# EAGLE library part WE-PPTI_1006 (library WE-PPTI)
WE-PPTI Push-Pull Transformers Characteristics Small size Surface mount Low profile Operating temp: -40°C to 125°C Functional or Reinforced Insulation Applications Isolated interface power supply for CAN, RS-485, RS-422, RS-232, SPI, I2C, lower-power LAN Industrial automation Process control Medical equipment PLC analog and digital I/O modules Isolated gate driver power supplies AC motor drives Uninterruptible power supplies (UPS) Solar inverters Polyphase energy meters Protection relays and IEDs <https://www.we-online.com/components/media/o715993v209%20Family-PPTI.jpg> Details see: www.we-online.com/en/components/products/WE-PPTI <www.we-online.com/catalog/WE-PPTI/?utm_source=eagle_model&utm_medium=description_link&utm_campaign=eisos_eagle> Updated by Ella Wu 2024-05-03 2024 (C) Würth Elektronik
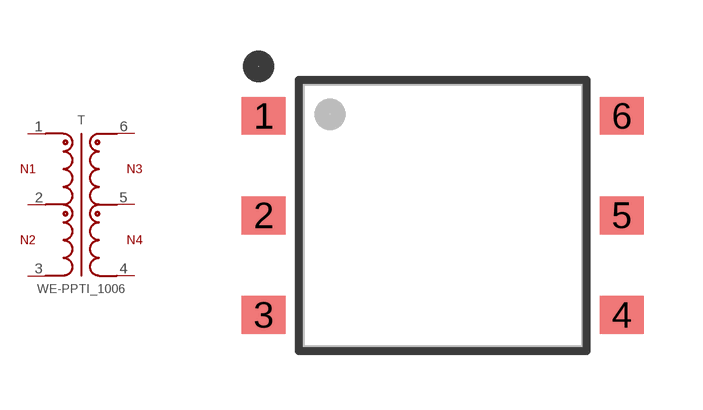
[diagram p10: symbol with the pads of WE-PPTI_1006_L10.2W6.73H4.19; footprint WE-PPTI_1006_L10.2W6.73H4.19]

Designator prefix T

## WE-PPTI_1006_750313710_L10.2W6.73H4.19 (DATASHEET-URL: https://www.we-online.com/redexpert/spec/750313710?ae; FSWITCH: 250 - 620kHz; HEIGHT: 4.19 mm; IOUT1: 650 mA; L: 475 uH; LENGTH: 10.2 mm; MOUNT: SMT; N: 1.23:1; PART-NUMBER: 750313710; SIZE: 1006; TYPE-OF-INSULATION: Functional; VALUE: 750313710; VIN: 5 V (DC); VOLTAGE-TIME: 11 Vus; VOUT1: 3.3 V (DC); VT: 2500 V (AC); WIDTH: 6.73 mm), WE-PPTI_1006_750315225_L10.2W6.73H4.19 (DATASHEET-URL: https://www.we-online.com/redexpert/spec/750315225?ae; FSWITCH: 350 - 550kHz; HEIGHT: 4.19 mm; IOUT1: 900 mA; L: 388 uH; LENGTH: 10.2 mm; MOUNT: SMT; N: 1:1.1; PART-NUMBER: 750315225; SIZE: 1006; TYPE-OF-INSULATION: Functional; VALUE: 750315225; VIN: 3.3 V (DC); VOLTAGE-TIME: 8.5 Vus; VOUT1: 3.6 V (DC); VT: 2750 V (AC); WIDTH: 6.73 mm), WE-PPTI_1006_750315226_L10.2W6.73H4.19 (DATASHEET-URL: https://www.we-online.com/redexpert/spec/750315226?ae; FSWITCH: 350 - 550kHz; HEIGHT: 4.19 mm; IOUT1: 850 mA; L: 388 uH; LENGTH: 10.2 mm; MOUNT: SMT; N: 1:1.3; PART-NUMBER: 750315226; SIZE: 1006; TYPE-OF-INSULATION: Functional; VALUE: 750315226; VIN: 3.3 V (DC); VOLTAGE-TIME: 8.5 Vus; VOUT1: 4.3 V (DC); VT: 2750 V (AC); WIDTH: 6.73 mm), WE-PPTI_1006_750315227_L10.2W6.73H4.19 (DATASHEET-URL: https://www.we-online.com/redexpert/spec/750315227?ae; FSWITCH: 350 - 550kHz; HEIGHT: 4.19 mm; IOUT1: 700 mA; L: 388 uH; LENGTH: 10.2 mm; MOUNT: SMT; N: 1:1.7; PART-NUMBER: 750315227; SIZE: 1006; TYPE-OF-INSULATION: Functional; VALUE: 750315227; VIN: 3.3 V (DC); VOLTAGE-TIME: 8.5 Vus; VOUT1: 5.6 V (DC); VT: 2750 V (AC); WIDTH: 6.73 mm), WE-PPTI_1006_750315228_L10.2W6.73H4.19 (DATASHEET-URL: https://www.we-online.com/redexpert/spec/750315228?ae; FSWITCH: 350 - 550kHz; HEIGHT: 4.19 mm; IOUT1: 500 mA; L: 388 uH; LENGTH: 10.2 mm; MOUNT: SMT; N: 1:2; PART-NUMBER: 750315228; SIZE: 1006; TYPE-OF-INSULATION: Functional; VALUE: 750315228; VIN: 3.3 V (DC); VOLTAGE-TIME: 8.5 Vus; VOUT1: 6.6 V (DC); VT: 2750 V (AC); WIDTH: 6.73 mm), WE-PPTI_1006_750316769_L10.2W6.73H4.19 (DATASHEET-URL: https://www.we-online.com/redexpert/spec/750316769?ae; FSWITCH: 300 - 620kHz; HEIGHT: 4.19 mm; IOUT1: 250 mA; L: 350 uH; LENGTH: 10.2 mm; MOUNT: SMT; N: 1:3.45; PART-NUMBER: 750316769; SIZE: 1006; TYPE-OF-INSULATION: Functional; VALUE: 750316769; VIN: 5 V (DC); VOLTAGE-TIME: 9 Vus; VOUT1: 15 V (DC); VT: 2500 V (AC); WIDTH: 6.73 mm), WE-PPTI_1006_750316770_L10.2W6.73H4.19 (DATASHEET-URL: https://www.we-online.com/redexpert/spec/750316770?ae; FSWITCH: 300 - 620kHz; HEIGHT: 4.19 mm; IOUT1: 280 mA; L: 350 uH; LENGTH: 10.2 mm; MOUNT: SMT; N: 1:2.91; PART-NUMBER: 750316770; SIZE: 1006; TYPE-OF-INSULATION: Functional; VALUE: 750316770; VIN: 5 V (DC); VOLTAGE-TIME: 9 Vus; VOUT1: 12 V (DC); VT: 2500 V (AC); WIDTH: 6.73 mm), WE-PPTI_1006_750317331_L10.2W6.73H4.19 (DATASHEET-URL: https://www.we-online.com/redexpert/spec/750317331?ae; FSWITCH: 350 - 620kHz; HEIGHT: 4.67 mm; IOUT1: 500 mA; L: 4000 uH; LENGTH: 10.2 mm; MOUNT: SMT; N: 1.94:1; PART-NUMBER: 750317331; SIZE: 1006; TYPE-OF-INSULATION: Functional; VALUE: 750317331; VIN: 24 V (DC); VOLTAGE-TIME: 41 Vus; VOUT1: 12 V (DC); VT: 2500 V (AC); WIDTH: 6.73 mm), WE-PPTI_1006_750317722_L10.2W6.73H4.19 (DATASHEET-URL: https://www.we-online.com/redexpert/spec/750317722?ae; FSWITCH: 350 - 500kHz; HEIGHT: 4.19 mm; IOUT1: 225 mA; L: 320 uH; LENGTH: 10.2 mm; MOUNT: SMT; N: 1:3.91; PART-NUMBER: 750317722; SIZE: 1006; TYPE-OF-INSULATION: Functional; VALUE: 750317722; VIN: 5 V (DC); VOLTAGE-TIME: 10 Vus; VOUT1: 19 V (DC); VT: 2500 V (AC); WIDTH: 6.73 mm), WE-PPTI_1006_750317828_L10.2W6.73H4.19 (DATASHEET-URL: https://www.we-online.com/redexpert/spec/750317828?ae; FSWITCH: 350 - 620kHz; HEIGHT: 4.67 mm; IOUT1: 800 mA; L: 4000 uH; LENGTH: 10.2 mm; MOUNT: SMT; N: 4.43:1; PART-NUMBER: 750317828; SIZE: 1006; TYPE-OF-INSULATION: Functional; VALUE: 750317828; VIN: 24 V (DC); VOLTAGE-TIME: 41 Vus; VOUT1: 5 V (DC); VT: 2500 V (AC); WIDTH: 6.73 mm), WE-PPTI_1006_750317829_L10.2W6.73H4.19 (DATASHEET-URL: https://www.we-online.com/redexpert/spec/750317829?ae; FSWITCH: 300 - 620kHz; HEIGHT: 4.67 mm; IOUT1: 300 mA; L: 1920 uH; LENGTH: 10.2 mm; MOUNT: SMT; N: 1:1.05; PART-NUMBER: 750317829; SIZE: 1006; TYPE-OF-INSULATION: Functional; VALUE: 750317829; VIN: 12 V (DC); VOLTAGE-TIME: 24 Vus; VOUT1: 12 V (DC); VT: 2500 V (AC); WIDTH: 6.73 mm), WE-PPTI_1006_750317830_L10.2W6.73H4.19 (DATASHEET-URL: https://www.we-online.com/redexpert/spec/750317830?ae; FSWITCH: 300 - 620kHz; HEIGHT: 4.67 mm; IOUT1: 700 mA; L: 1920 uH; LENGTH: 10.2 mm; MOUNT: SMT; N: 2.2:1; PART-NUMBER: 750317830; SIZE: 1006; TYPE-OF-INSULATION: Functional; VALUE: 750317830; VIN: 12 V (DC); VOLTAGE-TIME: 24 Vus; VOUT1: 5 V (DC); VT: 2500 V (AC); WIDTH: 6.73 mm), WE-PPTI_1006_760390012_L10.2W6.73H4.19 (DATASHEET-URL: https://www.we-online.com/redexpert/spec/760390012?ae; FSWITCH: 300 - 620kHz; HEIGHT: 4.19 mm; IOUT1: 750 mA; L: 475 uH; LENGTH: 10.2 mm; MOUNT: SMT; N: 1:1.1; PART-NUMBER: 760390012; SIZE: 1006; TYPE-OF-INSULATION: Functional; VALUE: 760390012; VIN: 5 V (DC); VOLTAGE-TIME: 11 Vus; VOUT1: 5 V (DC); VT: 2500 V (AC); WIDTH: 6.73 mm), WE-PPTI_1006_760390013_L10.2W6.73H4.19 (DATASHEET-URL: https://www.we-online.com/redexpert/spec/760390013?ae; FSWITCH: 250 - 550kHz; HEIGHT: 4.19 mm; IOUT1: 500 mA; L: 475 uH; LENGTH: 10.2 mm; MOUNT: SMT; N: 1:1.7; PART-NUMBER: 760390013; SIZE: 1006; TYPE-OF-INSULATION: Functional; VALUE: 760390013; VIN: 3.3 V (DC); VOLTAGE-TIME: 11 Vus; VOUT1: 5 V (DC); VT: 2500 V (AC); WIDTH: 6.73 mm), WE-PPTI_1006_760390014_L10.2W6.73H4.19 (DATASHEET-URL: https://www.we-online.com/redexpert/spec/760390014?ae; FSWITCH: 300 - 620kHz; HEIGHT: 4.19 mm; IOUT1: 600 mA; L: 475 uH; LENGTH: 10.2 mm; MOUNT: SMT; N: 1:1.3; PART-NUMBER: 760390014; SIZE: 1006; TYPE-OF-INSULATION: Functional; VALUE: 760390014; VIN: 5 V (DC); VOLTAGE-TIME: 11 Vus; VOUT1: 5 V (DC); VT: 2500 V (AC); WIDTH: 6.73 mm), WE-PPTI_1006_760390015_L10.2W6.73H4.19 (DATASHEET-URL: https://www.we-online.com/redexpert/spec/760390015?ae; FSWITCH: 250 - 550kHz; HEIGHT: 4.19 mm; IOUT1: 450 mA; L: 475 uH; LENGTH: 10.2 mm; MOUNT: SMT; N: 1:2; PART-NUMBER: 760390015; SIZE: 1006; TYPE-OF-INSULATION: Functional; VALUE: 760390015; VIN: 3.3 V (DC); VOLTAGE-TIME: 11 Vus; VOUT1: 5 V (DC); VT: 2500 V (AC); WIDTH: 6.73 mm)  [WE-PPTI_1006_L10.2W6.73H4.19]
1  1  pas
2  2  pas
3  3  pas
4  4  pas
5  5  pas
6  6  pas

## Footprint WE-PPTI_1006_L10.2W6.73H4.19 (pad centres in mm)
WE-PPTI Push-Pull Transformers Size: 1006, SMT, 6pins LXWXH=10.2X6.73X4.19mm
smd 1.12 x 0.96: 1 -4.57,2.54; 2 -4.57,0; 3 -4.57,-2.54; 4 4.57,-2.54; 5 4.57,0; 6 4.57,2.54